# Altium footprint library SOT-23_5.PcbLib: 1 footprints
Each footprint in its own frame and in the unit in brackets; x right, y up, seen from the top. Pads: shape width x height; smd on the part's side, far side on the other; paste and mask are expansions set on the pad; w line width, h text height; cw(c..) or ccw(c..) is an arc to the next point about the centre after c.
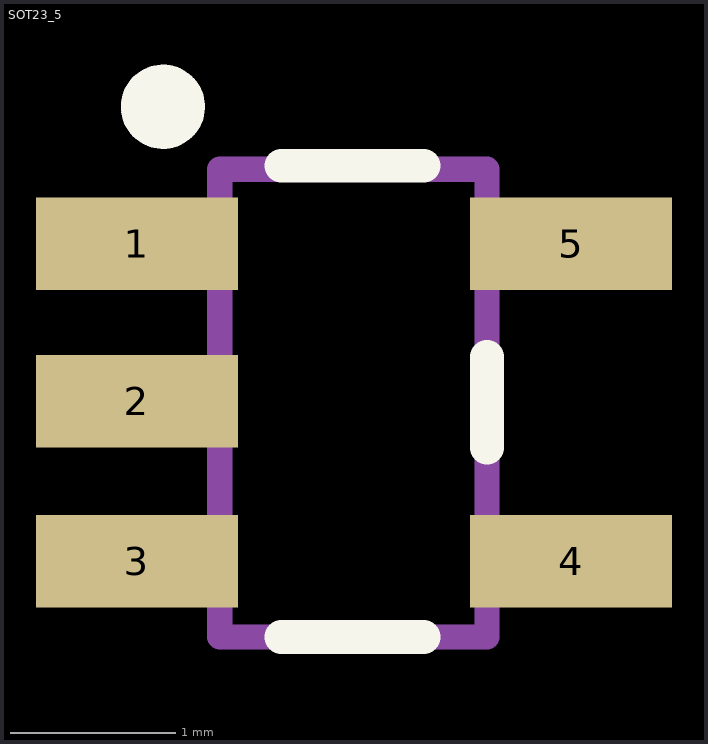
[diagram p0: the footprint, top view; thin cyan lines are the x and y axes]

## SOT23_5 [mil] "OPA344 op-amp footprint"
pads (5):
  rect 48x22 smd: 1(-49801.18,-49737.6) 2(-49801.18,-49775) 3(-49801.18,-49813) 4(-49698,-49813) 5(-49698,-49737.6)
Top Overlay:
  circle w10: c-49795,-49705 r5
  lines w8: -49766.91,-49831 -49733,-49831 ; -49766.91,-49719 -49733,-49719 ; -49718,-49786 -49718,-49764.43
Mechanical 2:
Mechanical 4:
Mechanical 16:
  region: -49716,-49727.71 -49716,-49747.39 -49690,-49747.39 -49690,-49727.71
  region: -49716,-49803 -49716,-49823 -49690,-49823 -49690,-49803
  region: -49809.05,-49803 -49809.05,-49823 -49783.46,-49823 -49783.46,-49803
  region: -49809.06,-49765.16 -49809.06,-49785 -49783.46,-49785 -49783.46,-49765.16
  region: -49809.06,-49727.76 -49809.06,-49747.44 -49783.46,-49747.44 -49783.46,-49727.76
  lines w6: -49781.5,-49831 -49718,-49831 -49718,-49719.88 -49781.5,-49719.88 -49781.5,-49831